# EAGLE library part 87831-06 (library components)
Milli-Grid Header 2.00mm (.079") Pitch
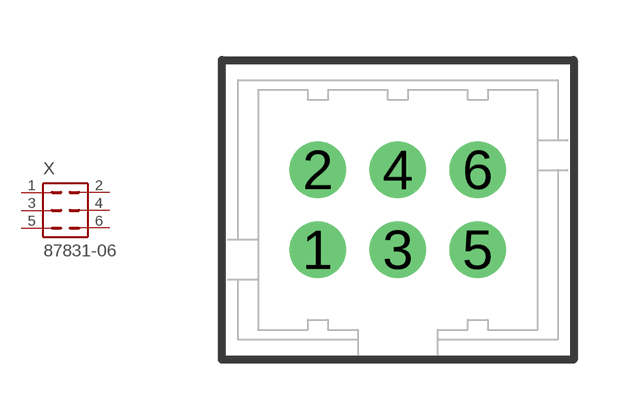
[diagram p3: symbol with the pads of 87831-06; footprint 87831-06]

Designator prefix X

## 87831-06 (OC_FARNELL: 1756947; OC_NEWARK: unknown)  [87831-06]
1  1  pas
2  2  pas
3  3  pas
4  4  pas
5  5  pas
6  6  pas

## Footprint 87831-06 (pad centres in mm)
PCB Headers 2.00mm (.079") Pitch Milli-Grid Header, Vertical, Shrouded
drill 0.9: 1 -2,-1; 2 -2,1; 3 0,-1; 4 0,1; 5 2,-1; 6 2,1